# Altium schematic symbol library NCP187AMT330TAG.SchLib: 1 symbol
Pins are listed as number, name and electrical type; pins without a type are passive.

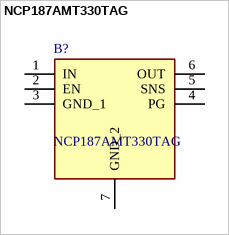
[diagram p0: symbol NCP187AMT330TAG]

## NCP187AMT330TAG
designator B?
LDO Voltage Regulators 1.2A 3.3V Active discharge; Manufacturer_Name: onsemi; Geometry.Height: 0.8mm; Manufacturer_Part_Number: NCP187AMT330TAG; Mouser Part Number: 863-NCP187AMT330TAG; Mouser Price/Stock: https://www.mouser.co.uk/ProductDetail/onsemi/NCP187AMT330TAG?qs=%252B6g0mu59x7JOII%252BWk4iw4Q%3D%3D; Arrow Part Number: NCP187AMT330TAG; Arrow Price/Stock: https://www.arrow.com/en/products/ncp187amt330tag/on-semiconductor?region=europe; Datasheet Link: https://componentsearchengine.com/Datasheets/1/NCP187AMT330TAG.pdf
footprint SON65P200X200X80-7N
pins: 1 IN, 2 EN, 3 GND_1, 4 PG, 5 SNS, 6 OUT, 7 GND_2